# Altium schematic symbol library SCH - DIODES - LED W.THERMAL PAD.SCHLIB: 1 symbol
Pins are listed as number, name and electrical type; pins without a type are passive.

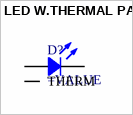
[diagram p0: symbol LED W.THERMAL PAD]

## LED W.THERMAL PAD
designator D?
Chip LED
pins: 0 THERM, 1, 2